# Altium schematic symbol library __ui.SchLib: 28 symbols
Pins are listed as number, name and electrical type; pins without a type are passive.

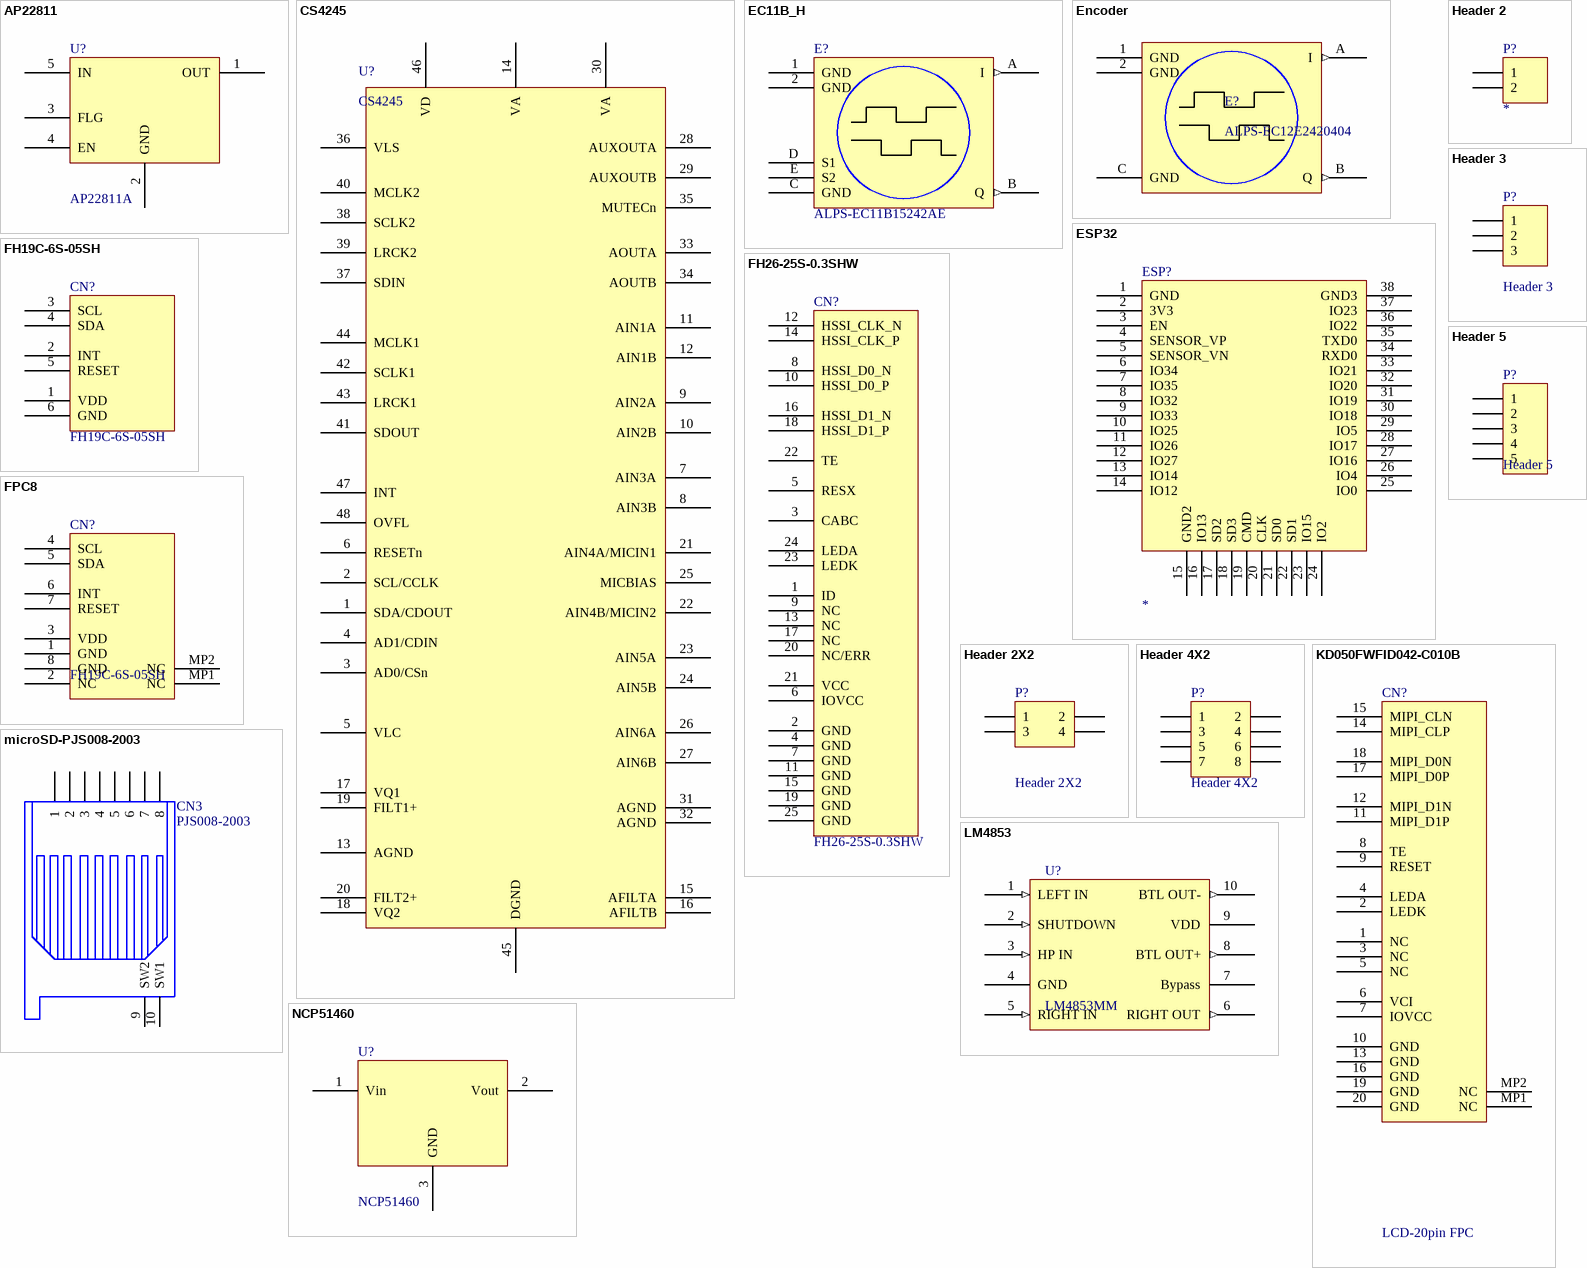
[diagram p0: symbols AP22811 to NCP51460]

## AP22811
designator U?, comment AP22811A
High-side switch
footprint SOT25-5 (5 lead package)
pins: 1 OUT (power), 2 GND, 3 FLG, 4 EN, 5 IN (power)

## CS4245
designator U?
Audio CODEC
footprint QUAD48
pins: 1 SDA/CDOUT, 2 SCL/CCLK, 3 AD0/CSn, 4 AD1/CDIN, 5 VLC, 6 RESETn, 7 AIN3A, 8 AIN3B, 9 AIN2A, 10 AIN2B, 11 AIN1A, 12 AIN1B, 13 AGND, 14 VA, 15 AFILTA, 16 AFILTB, 17 VQ1, 18 VQ2, 19 FILT1+, 20 FILT2+, 21 AIN4A/MICIN1, 22 AIN4B/MICIN2, 23 AIN5A, 24 AIN5B, 25 MICBIAS, 26 AIN6A, 27 AIN6B, 28 AUXOUTA, 29 AUXOUTB, 30 VA, 31 AGND, 32 AGND, 33 AOUTA, 34 AOUTB, 35 MUTECn, 36 VLS, 37 SDIN, 38 SCLK2, 39 LRCK2, 40 MCLK2, 41 SDOUT, 42 SCLK1, 43 LRCK1, 44 MCLK1, 45 DGND, 46 VD, 47 INT, 48 OVFL

## EC11B_H
designator E?, comment ALPS-EC11B15242AE
Horizontal Encoder; Order: FN 206-4978; Price: 2.37
footprint EC11B_Horiz (Alps Rotary Encoder)
pins: 1 GND (power), 2 GND (power), A I (out), B Q (out), C GND (power), D S1, E S2

## Encoder
designator E?, comment ALPS-EC12E2420404
ALPS Rotary Encoder
footprint Encoder (Alps Rotary Encoder)
pins: 1 GND (power), 2 GND (power), A I (out), B Q (out), C GND (power)

## ESP32
designator ESP?
ESP8266 - ESP-07 Module
pins: 1 GND, 2 3V3, 3 EN, 4 SENSOR_VP, 5 SENSOR_VN, 6 IO34, 7 IO35, 8 IO32, 9 IO33, 10 IO25, 11 IO26, 12 IO27, 13 IO14, 14 IO12, 15 GND2, 16 IO13, 17 SD2, 18 SD3, 19 CMD, 20 CLK, 21 SD0, 22 SD1, 23 IO15, 24 IO2, 25 IO0, 26 IO4, 27 IO16, 28 IO17, 29 IO5, 30 IO18, 31 IO19, 32 IO20, 33 IO21, 34 RXD0, 35 TXD0, 36 IO22, 37 IO23, 38 GND3

## FH19C-6S-05SH
designator CN?
footprint FH19C-6S-05SH (Footprint not found)
pins: 1 VDD, 2 INT, 3 SCL, 4 SDA, 5 RESET, 6 GND

## FH26-25S-0.3SHW
designator CN?
footprint FH26-25S-0.3SHW (Footprint not found)
pins: 1 ID, 2 GND, 3 CABC, 4 GND, 5 RESX, 6 IOVCC, 7 GND, 8 HSSI_D0_N, 9 NC, 10 HSSI_D0_P, 11 GND, 12 HSSI_CLK_N, 13 NC, 14 HSSI_CLK_P, 15 GND, 16 HSSI_D1_N, 17 NC, 18 HSSI_D1_P, 19 GND, 20 NC/ERR, 21 VCC, 22 TE, 23 LEDK, 24 LEDA, 25 GND

## FPC8
designator CN?, comment FH19C-6S-05SH
footprint FH19C-6S-05SH (Footprint not found)
footprint MOLX-501461-0891 (FPC Connector, 8-Leads, Right Angle, Pitch 0.5 mm, Mated Height 0.8 mm, SMT)
pins: 1 GND, 2 NC, 3 VDD, 4 SCL, 5 SDA, 6 INT, 7 RESET, 8 GND, MP1 NC, MP2 NC

## Header 2
designator P?
Header, 2-Pin
footprint SIP2
pins: 1, 2

## Header 2X2
designator P?
Header, 2-Pin, Dual row; LatestRevisionDate: 17-Jul-2002; LatestRevisionNote: Re-released for DXP Platform.; Publisher: Altium Limited
footprint HDR2X2 (Connector; Header; 2x2 Position)
signal-integrity model Connector
pins: 1, 2, 3, 4

## Header 3
designator P?
Header, 3-Pin
footprint HDR1X3 (Connector; Header; 3 Position)
pins: 1, 2, 3

## Header 4X2
designator P?
Header, 4-Pin, Dual row; LatestRevisionDate: 17-Jul-2002; LatestRevisionNote: Re-released for DXP Platform.; Publisher: Altium Limited
footprint HDR2X4 (Connector; Header; 4x2 Position)
signal-integrity model Connector
pins: 1, 2, 3, 4, 5, 6, 7, 8

## Header 5
designator P?
Header, 5-Pin
signal-integrity model Connector
footprint HDR1X5 (Connector; Header; 5 Position)
pins: 1, 2, 3, 4, 5

## KD050FWFID042-C010B
designator CN?, comment LCD-20pin FPC
footprint FH26-25S-0.3SHW (Footprint not found)
footprint MOLX-52746-2071 (FPC Connector, 20-Leads, Right Angle, Pitch 0.5 mm, Mated Height 2.0 mm, SMT)
pins: 1 NC, 2 LEDK, 3 NC, 4 LEDA, 5 NC, 6 VCI, 7 IOVCC, 8 TE, 9 RESET, 10 GND, 11 MIPI_D1P, 12 MIPI_D1N, 13 GND, 14 MIPI_CLP, 15 MIPI_CLN, 16 GND, 17 MIPI_D0P, 18 MIPI_D0N, 19 GND, 20 GND, MP1 NC, MP2 NC

## LM4853
designator U?, comment LM4853MM
Mono 1.5 W / Stereo 300mW Power Amplifier
footprint SLAB-MSOP-10_N (SOP, 10-Leads, Body 3x3mm, Pitch 0.5mm, IPC Medium Density)
pins: 1 LEFT IN (in), 2 SHUTDOWN (in), 3 HP IN (in), 4 GND (power), 5 RIGHT IN (in), 6 RIGHT OUT (out), 7 Bypass, 8 BTL OUT+ (out), 9 VDD, 10 BTL OUT- (out)

## microSD-PJS008-2003
designator CN3, comment PJS008-2003
Memory Card Connectors MicroSD Card Conn Revrs Mnt Push-Push; Manuf_Part_1: PJS008-2003-1; Manuf_1: YAMAICHI; Distrib: *; Order: PJS008-2003-1; ECCN_US/EU: n/a
footprint MSD_PJS008 (Footprint not found)
pins: 1, 2, 3, 4, 5, 6, 7, 8, 9 SW2, 10 SW1

## NCP51460
designator U?
3.3V voltage reference, SOT-23
footprint FH19C-6S-05SH (Footprint not found)
footprint SOT-23
pins: 1 Vin (power), 2 Vout (power), 3 GND

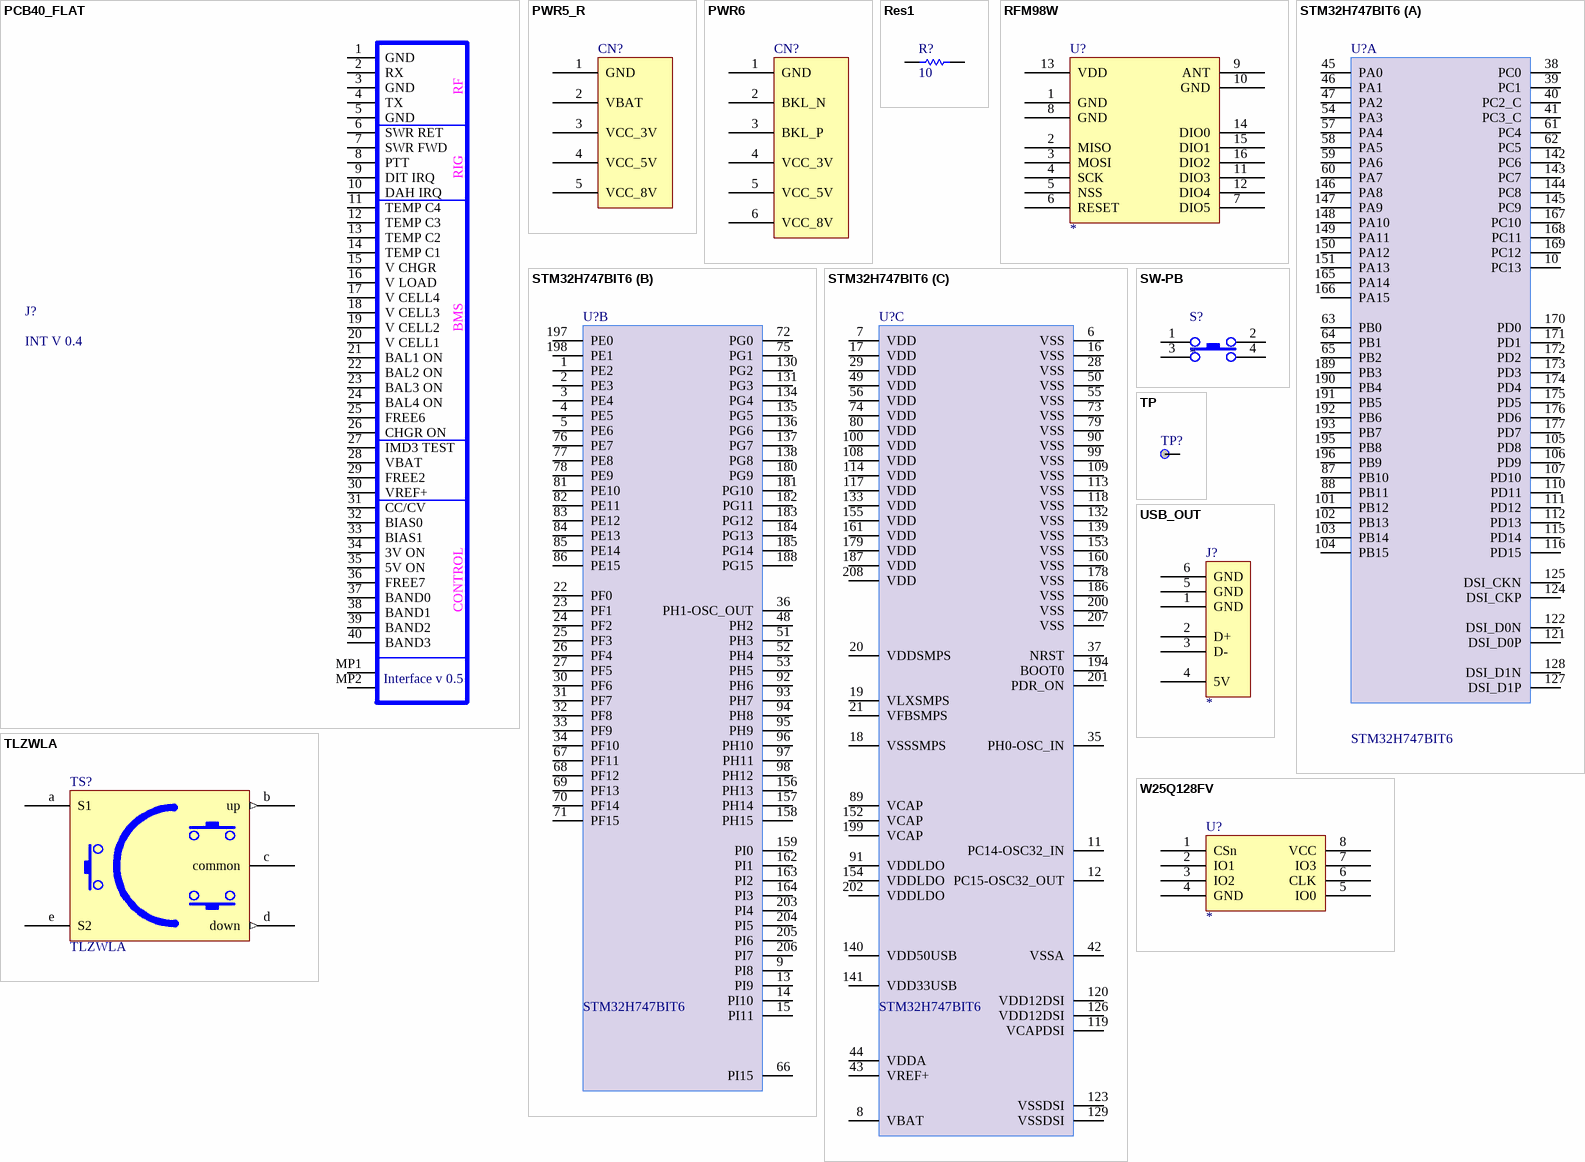
[diagram p1: symbols PCB40_FLAT to W25Q128FV]

## PCB40_FLAT
designator J?, comment INT V 0.4
40 pin FPC Flat cable connector, board to board
footprint MOLX-54132-4033r (FPC Connector, 40-Leads, Right Angle, Pitch 0.5 mm, Mated Height 2.0 mm, SMT)
pins: 1 GND, 2 RX, 3 GND, 4 TX, 5 GND, 6 SWR RET, 7 SWR FWD, 8 PTT, 9 DIT IRQ, 10 DAH IRQ, 11 TEMP C4, 12 TEMP C3, 13 TEMP C2, 14 TEMP C1, 15 V CHGR, 16 V LOAD, 17 V CELL4, 18 V CELL3, 19 V CELL2, 20 V CELL1, 21 BAL1 ON, 22 BAL2 ON, 23 BAL3 ON, 24 BAL4 ON, 25 FREE6, 26 CHGR ON, 27 IMD3 TEST, 28 VBAT, 29 FREE2, 30 VREF+, 31 CC/CV, 32 BIAS0, 33 BIAS1, 34 3V ON, 35 5V ON, 36 FREE7, 37 BAND0, 38 BAND1, 39 BAND2, 40 BAND3, MP1, MP2
text: RF; RIG; BMS; CONTROL; Interface v 0.5

## PWR5_R
designator CN?
footprint FH19C-6S-05SH (Footprint not found)
footprint HDR_1x5_PWR_R (Male Header, Pitch 2.54mm, 5x1 Position, 90deg)
pins: 1 GND, 2 VBAT, 3 VCC_3V, 4 VCC_5V, 5 VCC_8V

## PWR6
designator CN?
Power connector
footprint HDR_1x6_PWR_R (Male Header, Pitch 2.54mm, 6x1 Position, 90deg)
pins: 1 GND, 2 BKL_N, 3 BKL_P, 4 VCC_3V, 5 VCC_5V, 6 VCC_8V

## Res1
designator R?, comment 10
Resistor; Value: 1K; Published: 8-Jun-2000; Revision: July-2002: Re-released for DXP Platform.; Publisher: Altium Limited
footprint AXIAL-0.3 (Resistor; 2 Leads)
simulation model RESISTOR (Resistor)
signal-integrity model Res
footprint 0603
footprint 0603R
footprint 0805
pins: 1, 2
1 alternate drawing of the same symbol

## RFM98W
designator U?
RFM96
pins: 1 GND, 2 MISO, 3 MOSI, 4 SCK, 5 NSS, 6 RESET, 7 DIO5, 8 GND, 9 ANT, 10 GND, 11 DIO3, 12 DIO4, 13 VDD, 14 DIO0, 15 DIO1, 16 DIO2

## STM32H747BIT6
designator U?
STM32H747BIT6 LQFP208; Order: FN 248-4976; Price: 10.97
footprint LQFP208-28x28x1.4
part A pins: 10 PC13, 38 PC0, 39 PC1, 40 PC2_C, 41 PC3_C, 45 PA0, 46 PA1, 47 PA2, 54 PA3, 57 PA4, 58 PA5, 59 PA6, 60 PA7, 61 PC4, 62 PC5, 63 PB0, 64 PB1, 65 PB2, 87 PB10, 88 PB11, 101 PB12, 102 PB13, 103 PB14, 104 PB15, 105 PD8, 106 PD9, 107 PD10, 110 PD11, 111 PD12, 112 PD13, 115 PD14, 116 PD15, 121 DSI_D0P, 122 DSI_D0N, 124 DSI_CKP, 125 DSI_CKN, 127 DSI_D1P, 128 DSI_D1N, 142 PC6, 143 PC7, 144 PC8, 145 PC9, 146 PA8, 147 PA9, 148 PA10, 149 PA11, 150 PA12, 151 PA13, 165 PA14, 166 PA15, 167 PC10, 168 PC11, 169 PC12, 170 PD0, 171 PD1, 172 PD2, 173 PD3, 174 PD4, 175 PD5, 176 PD6, 177 PD7, 189 PB3, 190 PB4, 191 PB5, 192 PB6, 193 PB7, 195 PB8, 196 PB9
part B pins: 1 PE2, 2 PE3, 3 PE4, 4 PE5, 5 PE6, 9 PI8, 13 PI9, 14 PI10, 15 PI11, 22 PF0, 23 PF1, 24 PF2, 25 PF3, 26 PF4, 27 PF5, 30 PF6, 31 PF7, 32 PF8, 33 PF9, 34 PF10, 36 PH1-OSC_OUT, 48 PH2, 51 PH3, 52 PH4, 53 PH5, 66 PI15, 67 PF11, 68 PF12, 69 PF13, 70 PF14, 71 PF15, 72 PG0, 75 PG1, 76 PE7, 77 PE8, 78 PE9, 81 PE10, 82 PE11, 83 PE12, 84 PE13, 85 PE14, 86 PE15, 92 PH6, 93 PH7, 94 PH8, 95 PH9, 96 PH10, 97 PH11, 98 PH12, 130 PG2, 131 PG3, 134 PG4, 135 PG5, 136 PG6, 137 PG7, 138 PG8, 156 PH13, 157 PH14, 158 PH15, 159 PI0, 162 PI1, 163 PI2, 164 PI3, 180 PG9, 181 PG10, 182 PG11, 183 PG12, 184 PG13, 185 PG14, 188 PG15, 197 PE0, 198 PE1, 203 PI4, 204 PI5, 205 PI6, 206 PI7
part C pins: 6 VSS, 7 VDD, 8 VBAT, 11 PC14-OSC32_IN, 12 PC15-OSC32_OUT, 16 VSS, 17 VDD, 18 VSSSMPS, 19 VLXSMPS, 20 VDDSMPS, 21 VFBSMPS, 28 VSS, 29 VDD, 35 PH0-OSC_IN, 37 NRST, 42 VSSA, 43 VREF+, 44 VDDA, 49 VDD, 50 VSS, 55 VSS, 56 VDD, 73 VSS, 74 VDD, 79 VSS, 80 VDD, 89 VCAP, 90 VSS, 91 VDDLDO, 99 VSS, 100 VDD, 108 VDD, 109 VSS, 113 VSS, 114 VDD, 117 VDD, 118 VSS, 119 VCAPDSI, 120 VDD12DSI, 123 VSSDSI, 126 VDD12DSI, 129 VSSDSI, 132 VSS, 133 VDD, 139 VSS, 140 VDD50USB, 141 VDD33USB, 152 VCAP, 153 VSS, 154 VDDLDO, 155 VDD, 160 VSS, 161 VDD, 178 VSS, 179 VDD, 186 VSS, 187 VDD, 194 BOOT0, 199 VCAP, 200 VSS, 201 PDR_ON, 202 VDDLDO, 207 VSS, 208 VDD
2 alternate drawings of the same symbol

## SW-PB
designator S?
Push Button
footprint BUTTON_SMD2
pins: 1, 2, 3, 4

## TLZWLA
designator TS?
Thumbwheel Toggle Switch; Order: FN 206-4978
footprint TLZWLA
pins: a S1, b up (out), c common (power), d down (out), e S2

## TP
designator TP?
footprint TP
pins: 1

## USB_OUT
designator J?
USB Host Connector
footprint USB_OUT_A
pins: 1 GND, 2 D+, 3 D-, 4 5V, 5 GND, 6 GND
2 alternate drawings of the same symbol

## W25Q128FV
designator U?
3V 128Mbit QUAD SPI
footprint SOIC8_208MIL
pins: 1 CSn, 2 IO1, 3 IO2, 4 GND, 5 IO0, 6 CLK, 7 IO3, 8 VCC